# EAGLE library part 68713614022 (library Eagle_FPC_CONNECTOR_AND_FFC_CAB (rev18c))
0.5MM ZIF FPC HORIZONTAL TOP CONTACT TYPE - TAPE & REEL PACKAGING MATERIAL: Insulator Material LCP Insulator Color Ivory Contact Material Phosphor Bronze Contact Plating 100 (µ) Tin over 50 (µ) Nickel Contact Type Stamped Actuator Material LCP Actuator Color Black ELECTRICAL PROPERTIES Rated Current 0.5A Working Voltage 50 V (AC) Withstanding Voltage 250 Contact Resistance 20 mΩ Insulation Resistance 100 MΩ <http://katalog.we-online.de/media/images/v2/Family_WE-FPC_6871xx14022.jpg> Details see: http://katalog.we-online.de/en/em/FPC_0_5_SMT_ZIF_HORIZONTAL_TOP_CONTACT_6871XX14022/68713614022 2015 (C) Wurth Elektronik
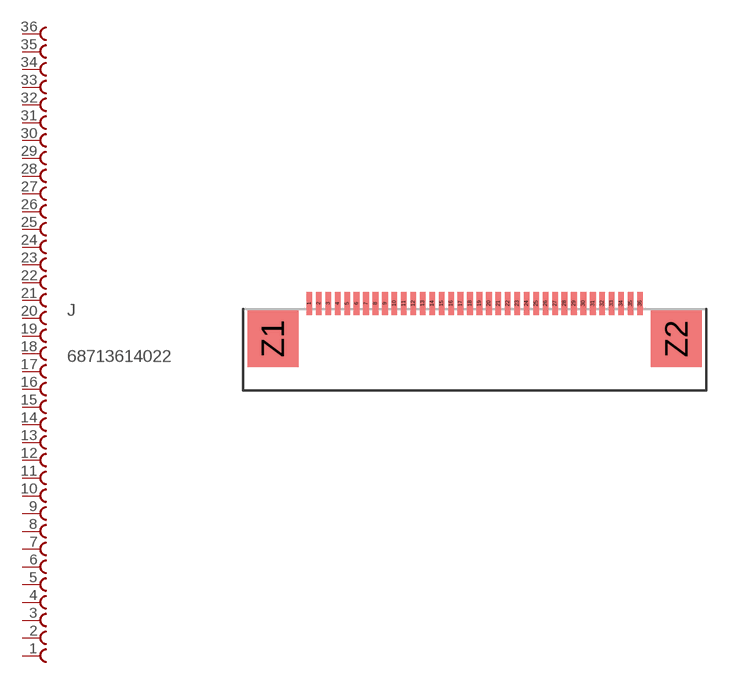
[diagram p140: symbol with the pads of 68713614022; footprint 68713614022]

Designator prefix J

## 68713614022  [68713614022]
1  36  pas
2  35  pas
3  34  pas
4  33  pas
5  32  pas
6  31  pas
7  30  pas
8  29  pas
9  28  pas
10  27  pas
11  26  pas
12  25  pas
13  24  pas
14  23  pas
15  22  pas
16  21  pas
17  20  pas
18  19  pas
19  18  pas
20  17  pas
21  16  pas
22  15  pas
23  14  pas
24  13  pas
25  12  pas
26  11  pas
27  10  pas
28  9  pas
29  8  pas
30  7  pas
31  6  pas
32  5  pas
33  4  pas
34  3  pas
35  2  pas
36  1  pas

## Footprint 68713614022 (pad centres in mm)
smd 0.3 x 1.2: 1 -8.25,1.86; 2 -7.75,1.86; 3 -7.25,1.86; 4 -6.75,1.86; 5 -6.25,1.86; 6 -5.75,1.86; 7 -5.25,1.86; 8 -4.75,1.86; 9 -4.25,1.86; 10 -3.75,1.86; 11 -3.25,1.86; 12 -2.75,1.86; 13 -2.25,1.86; 14 -1.75,1.86; 15 -1.25,1.86; 16 -0.75,1.86; 17 -0.25,1.86; 18 0.25,1.86; 19 0.75,1.86; 20 1.25,1.86; 21 1.75,1.86; 22 2.25,1.86; 23 2.75,1.86; 24 3.25,1.86; 25 3.75,1.86; 26 4.25,1.86; 27 4.75,1.86; 28 5.25,1.86; 29 5.75,1.86; 30 6.25,1.86; 31 6.75,1.86; 32 7.25,1.86; 33 7.75,1.86; 34 8.25,1.86; 35 8.75,1.86; 36 9.25,1.86
smd 2.7 x 3: Z1 -10.18,0; Z2 11.18,0